# Altium schematic symbol library Sucaiku.SCHLIB: 81 symbols (part 1 of 2)
Pins are listed as number, name and electrical type; pins without a type are passive.

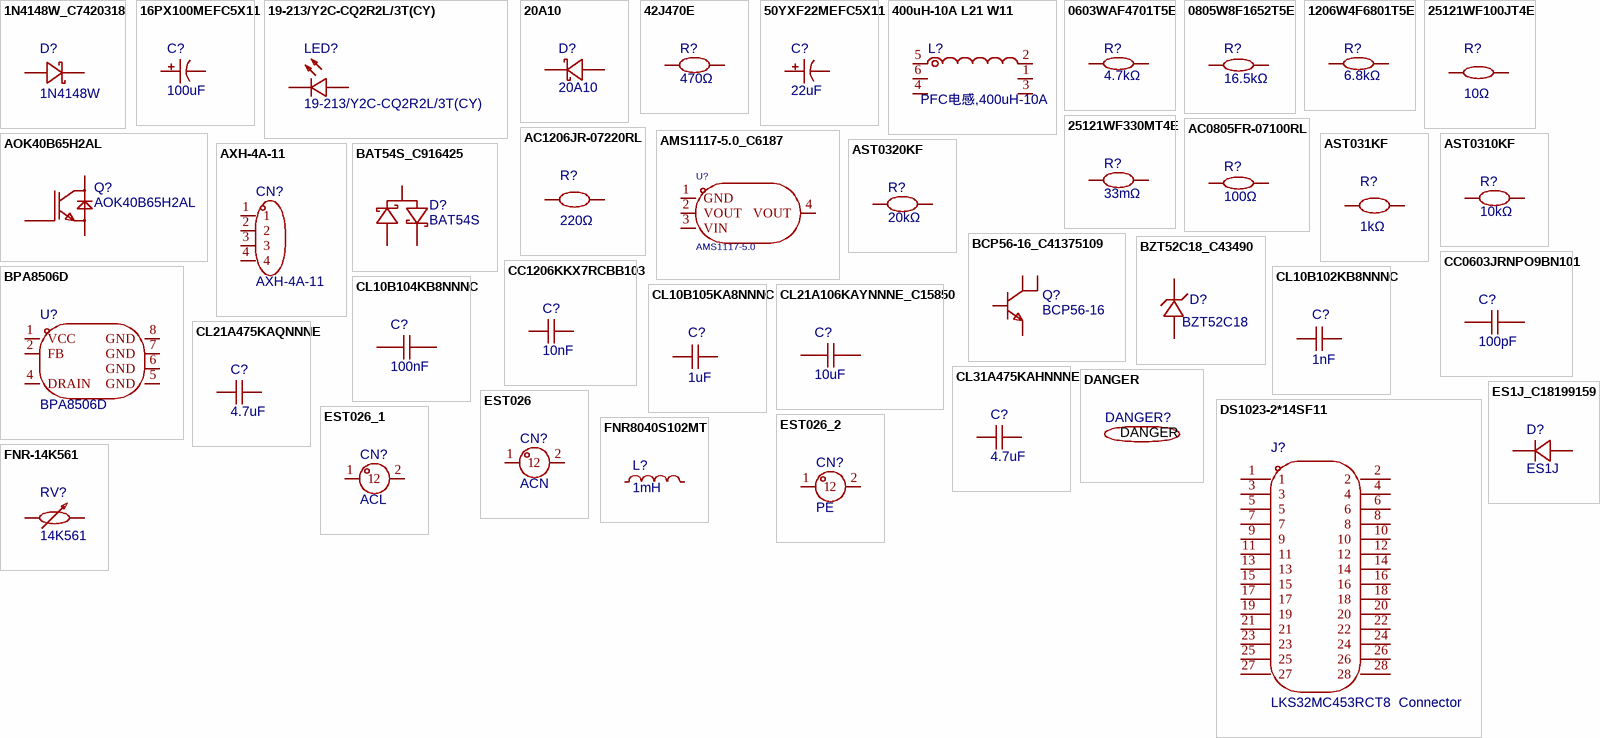
[diagram p0: symbols 1N4148W_C7420318 to FNR-14K561]

## 1N4148W_C7420318
designator D?, comment 1N4148W
二极管配置:独立式;整流电流:150mA;直流反向耐压(Vr):100V;正向压降(Vf):1.25V@150mA;反向恢复时间(Trr):4ns;; Manufacturer: R+O(宏嘉诚); Symbol: 1N4148W_C7420318; AddInBom: yes; ModelId: 5054d9b7be8b429dad093a54b517b4dd聨0819f05c4eef4c71ace90d822a990e87; ModelName: SOD-123_L2.7-W1.6-LS3.7-FD; ModelTransform: 145.669,61.024,0,0,0,0,0,0,0; Diode Configuration: 独立式; Pd - Power Dissipation: 400mW; Current - Rectified: 150mA; Voltage - DC Reverse(Vr): 100V; Non-Repetitive Peak Forward Surge Current: 2A; Reverse Leakage Current (Ir): 1uA@75V; Reverse Recovery Time (trr): 4ns; Operating Junction Temperature Range: -55℃~+150℃; Device: 1N4148W_C7420318; LCSC Part Name: 100V 150mA; SupplierPart: C7420318; ManufacturerPart: 1N4148W; Supplier Footprint: SOD-123; JLCPCB Part Class: Extended Part; Datasheet: https://item.szlcsc.com/datasheet/1N4148W/8397140.html; Supplier: LCSC; ConvertToPcb: yes; FootprintName: SOD-123_L2.7-W1.6-LS3.7-FD; Voltage - Forward(Vf@If): 1.25V@150mA
footprint SOD-123_L2.7-W1.6-LS3.7-FD
pins: 1 A, 2 K

## 16PX100MEFC5X11
designator C?, comment 100uF
容值:100uF;精度:±20%;额定电压:16V;纹波电流:130mA@120Hz;等效串联电阻:-;; Manufacturer: rubycon(红宝石); Symbol: 16PX100MEFC5X11; AddInBom: yes; ModelId: edeeed87cbc746108d01291548c38636聨0819f05c4eef4c71ace90d822a990e87; ModelName: CAP-TH_D5.0×H7.0×P2.0; ModelTransform: 197.091,196.7911,0,0,0,0,0,0,-137.795; Tolerance: ±20%; Rated Voltage: 16V; φD: 5mm; L: 11mm; Lifetime @ Temp: 1000hrs@105℃; Device: 16PX100MEFC5X11; LCSC Part Name: 100uF ±20% 16V; SupplierPart: C88753; ManufacturerPart: 16PX100MEFC5X11; Supplier Footprint: 插件,D5xL11mm; JLCPCB Part Class: Extended Part; Datasheet: https://atta.szlcsc.com/upload/public/pdf/source/20171026/C136025_15089841766351059112.pdf; Supplier: LCSC; ConvertToPcb: yes; FootprintName: CAP-TH_BD5.0-P2.00-D0.8-FD; Value: 100uF; Ripple Current: 130mA@120Hz; Equivalent Series Resistance(ESR): -; Lead Spacing: 2mm; Operating Temperature: -25℃~+105℃
footprint CAP-TH_BD5.0-P2.00-D0.8-FD
pins: 1, 2

## 19-213/Y2C-CQ2R2L/3T(CY)
designator LED?
灯头类型:-;发光颜色:黄色;正向压降(Vf):1.7V~2.3V;功率:60mW;正向电流:20mA;波长:585.5nm~591.5nm;二极管配置:-;透镜颜色:无色透明透镜;色温:-;发光强度:90mcd~180mcd;发光角度:120°;载带方式:-;工作温度:-40℃~+85℃;; Manufacturer: EVERLIGHT(亿光); AddInBom: yes; ModelId: a8fc7d5425514cf49dd600af0a7bb223聨0819f05c4eef4c71ace90d822a990e87; ModelName: LED0603-RD-YELLOW; ModelTransform: 63.7794,32.283,0,0,0,0,-1.969,0,0; Illumination Color: 黄色; Power(Watts): 60mW; Forward Current: 20mA; Peak Wavelength: 591nm; Lens Color: 无色透明透镜; Viewing Angle: 120°; Symbol: 19-213/Y2C-CQ2R2L/3T(CY); Device: 19-213/Y2C-CQ2R2L/3T(CY); LCSC Part Name: 黄灯; SupplierPart: C72038; ManufacturerPart: 19-213/Y2C-CQ2R2L/3T(CY); Supplier Footprint: 0603; JLCPCB Part Class: Extended Part; Supplier: LCSC; ConvertToPcb: yes; FootprintName: LED0603-RD-YELLOW; Lamp Holder Type: -; Voltage - Forward(Vf): 1.7V~2.3V; Wavelength - Dominant: 585.5nm~591.5nm; Diode Configuration: -; Color Temperature: -; Luminous Intensity: 90mcd~180mcd; Mounting Style: -; Operating Temperature: -40℃~+85℃
footprint LED0603-RD-YELLOW
pins: 1 C, 2 A

## 20A10
designator D?
二极管配置:1个独立式;正向压降(Vf):1.1V;直流反向耐压(Vr):1kV;整流电流:20A;; Manufacturer: XCH(旭昌辉); AddInBom: yes; ModelId: 44ca3a3bb809421495e4ca0e88ba9e22聨0819f05c4eef4c71ace90d822a990e87; ModelName: R-6_BD8.9-L8.9-P12.90-D1.3-FD; ModelTransform: 559.054,348.4245,0,0,0,0,0,0,-196.85; Diode Configuration: 1个独立式; Voltage - Forward(Vf@If): 1.1V; Voltage - DC Reverse(Vr): 1kV; Current - Rectified: 20A; Reverse Leakage Current (Ir): 5uA; Non-Repetitive Peak Forward Surge Current: 500A; Operating Junction Temperature Range: -55℃~+150℃; Symbol: 20A10; Device: 20A10; LCSC Part Name: 1kV 20A; SupplierPart: C5280530; ManufacturerPart: 20A10; Supplier Footprint: R-6; JLCPCB Part Class: Extended Part; Datasheet: https://item.szlcsc.com/datasheet/20A10/6016569.html; Supplier: LCSC; ConvertToPcb: yes; FootprintName: R-6_BD8.9-L8.9-P12.90-D1.3-FD
footprint R-6_BD8.9-L8.9-P12.90-D1.3-FD
pins: 1 A, 2 K

## 42J470E
designator R?, comment 470Ω
电阻类型:绕线电阻;阻值:470Ω;精度:±5%;功率:2W;温度系数:±20ppm/℃;; Manufacturer: Ohmite; Symbol: 42J470E; AddInBom: yes; ModelId: 4747cf4e98b642d29179640c6a2117b8聨0819f05c4eef4c71ace90d822a990e87; ModelName: RES-TH_BD5.6-L10.3-P14.30-D1.0; ModelTransform: 602.361,220.472,0,0,0,0,0,0,-196.85; Tolerance: ±5%; Power(Watts): 2W; Device: 42J470E; LCSC Part Name: 绕线电阻 470Ω ±5% 2W; SupplierPart: C2647050; ManufacturerPart: 42J470E; Supplier Footprint: 插件,D5.6xL10.3mm; JLCPCB Part Class: Extended Part; Datasheet: https://atta.szlcsc.com/upload/public/pdf/source/20210415/FD57F7914712F3BEBDE1F10436F3A07C.pdf; Supplier: LCSC; ConvertToPcb: yes; FootprintName: RES-TH_BD5.6-L10.3-P14.30-D1.0; Type: 绕线电阻; Value: 470Ω; Temperature Coefficient: ±20ppm/℃; Operating Temperature Range: -
footprint RES-TH_BD5.6-L10.3-P14.30-D1.0
pins: 1, 2

## 50YXF22MEFC5X11
designator C?, comment 22uF
容值:22uF;精度:±20%;额定电压:50V;; Manufacturer: Rubycon(红宝石); Symbol: 50YXF22MEFC5X11; AddInBom: yes; ModelId: edeeed87cbc746108d01291548c38636聨0819f05c4eef4c71ace90d822a990e87; ModelName: CAP-TH_D5.0×H7.0×P2.0; ModelTransform: 197.091,196.7911,0,0,0,0,0,0,-137.795; Tolerance: ±20%; Voltage Rating: 50V; Pin Spacing: 2mm; Lifetime: 5000hrs@105℃; Device: 50YXF22MEFC5X11; LCSC Part Name: 22uF ±20% 50V; SupplierPart: C88755; ManufacturerPart: 50YXF22MEFC5X11; Supplier Footprint: 插件,D5xL11mm; JLCPCB Part Class: Extended Part; Datasheet: https://item.szlcsc.com/datasheet/50YXF22MEFC5X11/89935.html; Supplier: LCSC; ConvertToPcb: yes; FootprintName: CAP-TH_BD5.0-P2.00-D0.8-FD; Value: 22uF; Diameter: 5mm; Height - Seated (Max): 11mm; Operating Temperature: -40℃~+105℃
footprint CAP-TH_BD5.0-P2.00-D0.8-FD
pins: 1, 2

## 400uH-10A L21 W11
designator L?, comment PFC电感,400uH-10A
Symbol: 400uH-10A L21 W11; AddInBom: yes; OriginFootprint: L/50*36-V-21*11(7.5); Device: 400uH-10A L21 W11; FootprintName: L/50*36-V-21*11(7.5); ConvertToPcb: yes
footprint L/50*36-V-21*11(7.5)
pins: 1 6, 2, 3, 4, 5, 6 1

## 0603WAF4701T5E
designator R?, comment 4.7kΩ
电阻类型:厚膜电阻;阻值:4.7kΩ;精度:±1%;功率:100mW;工作电压:75V;温度系数:±100ppm/℃;; Manufacturer: UNI-ROYAL(厚声); Symbol: 0603WAF4701T5E; AddInBom: yes; ModelId: fc143cca1e79419f9cd78b61e9279f08聨0819f05c4eef4c71ace90d822a990e87; ModelName: R0603; ModelTransform: 31.8897,63.7794,0,90,0,0,0,0,0; Tolerance: ±1%; Power(Watts): 100mW; Voltage-Supply(Max): 75V; Device: 0603WAF4701T5E; LCSC Part Name: 4.7kΩ ±1% 100mW 厚膜电阻; SupplierPart: C23162; ManufacturerPart: 0603WAF4701T5E; Supplier Footprint: 0603; JLCPCB Part Class: Basic Part; Datasheet: https://item.szlcsc.com/datasheet/0603WAF4701T5E/23889.html; Supplier: LCSC; ConvertToPcb: yes; FootprintName: R0603; Type: 厚膜电阻; Value: 4.7kΩ; Temperature Coefficient: ±100ppm/℃; Operating Temperature: -55℃~+155℃
footprint R0603
pins: 1, 2

## 0805W8F1652T5E
designator R?, comment 16.5kΩ
电阻类型:厚膜电阻;阻值:16.5kΩ;精度:±1%;功率:125mW;工作电压:150V;温度系数:±100ppm/℃;; Manufacturer: UNI-ROYAL(厚声); Symbol: 0805W8F1652T5E; AddInBom: yes; ModelId: 37a81e68749a4138bd2dfa6897b24b85聨0819f05c4eef4c71ace90d822a990e87; ModelName: R0805_L2.0-W1.3-H0.6; ModelTransform: 78.74,51.181,0,0,0,0,0,-0.0005,0; Tolerance: ±1%; Power(Watts): 125mW; Voltage-Supply(Max): 150V; Device: 0805W8F1652T5E; LCSC Part Name: 16.5kΩ ±1% 125mW 厚膜电阻; SupplierPart: C35929; ManufacturerPart: 0805W8F1652T5E; Supplier Footprint: 0805; JLCPCB Part Class: Extended Part; Datasheet: https://item.szlcsc.com/datasheet/0805W8F1652T5E/36906.html; Supplier: LCSC; ConvertToPcb: yes; FootprintName: R0805; Type: 厚膜电阻; Value: 16.5kΩ; Temperature Coefficient: ±100ppm/℃; Operating Temperature: -55℃~+155℃
footprint R0805
pins: 1, 2

## 1206W4F6801T5E
designator R?, comment 6.8kΩ
电阻类型:厚膜电阻;阻值:6.8kΩ;精度:±1%;功率:250mW;工作电压:200V;温度系数:±100ppm/℃;; Manufacturer: UNI-ROYAL(厚声); Symbol: 1206W4F6801T5E; AddInBom: yes; ModelId: 89a1f13db2384da588040e0b3c55bf66聨0819f05c4eef4c71ace90d822a990e87; ModelName: R1206_L3.2-W1.6-H0.6; ModelTransform: 125.984,62.992,0,0,0,0,0,0,0; Tolerance: ±1%; Power(Watts): 250mW; Voltage-Supply(Max): 200V; Device: 1206W4F6801T5E; LCSC Part Name: 6.8kΩ ±1% 250mW 厚膜电阻; SupplierPart: C26034; ManufacturerPart: 1206W4F6801T5E; Supplier Footprint: 1206; JLCPCB Part Class: Extended Part; Datasheet: https://item.szlcsc.com/datasheet/1206W4F6801T5E/26777.html; Supplier: LCSC; ConvertToPcb: yes; FootprintName: R1206; Type: 厚膜电阻; Value: 6.8kΩ; Temperature Coefficient: ±100ppm/℃; Operating Temperature: -55℃~+155℃
footprint R1206
pins: 1, 2

## 25121WF100JT4E
designator R?, comment 10Ω
电阻类型:厚膜电阻;阻值:10Ω;精度:±1%;功率:1W;工作电压:200V;温度系数:±400ppm/℃;; Manufacturer: UNI-ROYAL(厚声); Symbol: 25121WF100JT4E; AddInBom: yes; ModelId: 954b67263d9e4f3582d8de3f8c846421聨0819f05c4eef4c71ace90d822a990e87; ModelName: R2512_L6.3-W3.2-H0.6; ModelTransform: 248.031,125.984,0,0,0,0,-0.0005,0,0; Tolerance: ±1%; Power(Watts): 1W; Voltage-Supply(Max): 200V; Device: 25121WF100JT4E; LCSC Part Name: 10Ω ±1% 1W 厚膜电阻; SupplierPart: C47019; ManufacturerPart: 25121WF100JT4E; Supplier Footprint: 2512; JLCPCB Part Class: Extended Part; Datasheet: https://item.szlcsc.com/datasheet/25121WF100JT4E/48024.html; Supplier: LCSC; ConvertToPcb: yes; FootprintName: R2512; Type: 厚膜电阻; Value: 10Ω; Temperature Coefficient: ±400ppm/℃; Operating Temperature: -55℃~+155℃
footprint R2512
pins: 1, 2

## 25121WF330MT4E
designator R?, comment 33mΩ
电阻类型:厚膜电阻;阻值:33mΩ;精度:±1%;功率:1W;工作电压:200V;温度系数:±800ppm/℃;; Manufacturer: UNI-ROYAL(厚声); Symbol: 25121WF330MT4E; AddInBom: yes; ModelId: 954b67263d9e4f3582d8de3f8c846421聨0819f05c4eef4c71ace90d822a990e87; ModelName: R2512_L6.3-W3.2-H0.6; ModelTransform: 248.031,125.984,0,0,0,0,-0.0005,0,0; Tolerance: ±1%; Power(Watts): 1W; Voltage-Supply(Max): 200V; Device: 25121WF330MT4E; LCSC Part Name: 33mΩ ±1% 1W 厚膜电阻; SupplierPart: C620828; ManufacturerPart: 25121WF330MT4E; Supplier Footprint: 2512; JLCPCB Part Class: Extended Part; Datasheet: https://item.szlcsc.com/datasheet/25121WF330MT4E/650699.html; Supplier: LCSC; ConvertToPcb: yes; FootprintName: R2512; Type: 厚膜电阻; Value: 33mΩ; Temperature Coefficient: ±800ppm/℃; Operating Temperature: -55℃~+155℃
footprint R2512
pins: 1, 2

## AC0805FR-07100RL
designator R?, comment 100Ω
电阻类型:厚膜电阻;阻值:100Ω;精度:±1%;功率:125mW;工作电压:150V;温度系数:±100ppm/℃;; Manufacturer: YAGEO(国巨); Symbol: AC0805FR-07100RL; AddInBom: yes; ModelId: 37a81e68749a4138bd2dfa6897b24b85聨0819f05c4eef4c71ace90d822a990e87; ModelName: R0805_L2.0-W1.3-H0.6; ModelTransform: 78.74,51.181,0,0,0,0,0,-0.0005,0; Tolerance: ±1%; Power(Watts): 125mW; Voltage-Supply(Max): 150V; Device: AC0805FR-07100RL; LCSC Part Name: 厚膜电阻 100Ω ±1% 125mW; SupplierPart: C138274; ManufacturerPart: AC0805FR-07100RL; Supplier Footprint: 0805; JLCPCB Part Class: Extended Part; Datasheet: https://item.szlcsc.com/datasheet/AC0805FR-07100RL/149590.html; Supplier: LCSC; ConvertToPcb: yes; FootprintName: R0805; Type: 厚膜电阻; Value: 100Ω; Temperature Coefficient: ±100ppm/℃; Operating Temperature: -55℃~+155℃
footprint R0805
pins: 1, 2

## AC1206JR-07220RL
designator R?, comment 220Ω
电阻类型:厚膜电阻;阻值:220Ω;精度:±5%;功率:250mW;工作电压:200V;温度系数:±100ppm/℃;; Manufacturer: YAGEO(国巨); Symbol: AC1206JR-07220RL; AddInBom: yes; ModelId: 89a1f13db2384da588040e0b3c55bf66聨0819f05c4eef4c71ace90d822a990e87; ModelName: R1206_L3.2-W1.6-H0.6; ModelTransform: 125.984,62.992,0,0,0,0,0,0,0; Tolerance: ±5%; Power(Watts): 250mW; Voltage-Supply(Max): 200V; Device: AC1206JR-07220RL; LCSC Part Name: 厚膜电阻 220Ω ±5% 250mW; SupplierPart: C229909; ManufacturerPart: AC1206JR-07220RL; Supplier Footprint: 1206; JLCPCB Part Class: Extended Part; Datasheet: https://item.szlcsc.com/datasheet/AC1206JR-07220RL/229889.html; Supplier: LCSC; ConvertToPcb: yes; FootprintName: R1206; Type: 厚膜电阻; Value: 220Ω; Temperature Coefficient: ±100ppm/℃; Operating Temperature: -55℃~+155℃
footprint R1206
pins: 1, 2

## AMS1117-5.0_C6187
designator U?, comment AMS1117-5.0
输出极性:正极;工作电压:15V;输出电压:5V;输出电流:1A;电源纹波抑制比(PSRR):60dB;输出类型:固定;; Manufacturer: Advanced Monolithic Systems; Device: AMS1117-5.0_C6187; AddInBom: yes; ModelId: 925194bf9823436183a3e0b978a8d076聨0819f05c4eef4c71ace90d822a990e87; ModelName: SOT-223-4P_L6.5-W3.5-H1.6-LS7.0-P2.30; ModelTransform: 279.89794,255.905,0,180,0,0,0.0005,0.0005,0; Output Configuration: 正极; Voltage - Supply: 15V; Output Voltage: 5V; Output Current: 1A; Power Supply Rejection Ratio (PSRR): 60dB; Voltage Dropout: 1.3V; standby current: 5mA; Noise: 0.003%Vout; Output Type: 固定; Number of Outputs: 1; Symbol: AMS1117-5.0; LCSC Part Name: 5V 1A 15V; SupplierPart: C6187; ManufacturerPart: AMS1117-5.0; Supplier Footprint: SOT-223; JLCPCB Part Class: Basic Part; Datasheet: https://item.szlcsc.com/datasheet/AMS1117-5.0/6653.html; Supplier: LCSC; ConvertToPcb: yes; FootprintName: SOT-223_L6.5-W3.5-P2.30-LS7.0-BR; Features: 短路保护；热关断; Operating Temperature: -40℃~+125℃
footprint SOT-223_L6.5-W3.5-P2.30-LS7.0-BR
pins: 1 GND, 2 VOUT, 3 VIN, 4 VOUT

## AOK40B65H2AL
designator Q?
IGBT类型:-;集射极击穿电压(Vces):650V;集电极电流(Ic):80A;耗散功率(Pd):-;; Manufacturer: AOS; AddInBom: yes; ModelId: 2dc33f6e48bd44aa838c2b9e2b85eb16聨0819f05c4eef4c71ace90d822a990e87; ModelName: TO-247-3_L15.8-W5.0-P5.44-L; ModelTransform: 622.04631,185.078,0,0,0,0,-0.003,13.778,-196.85; Collector-Emitter Breakdown Voltage (Vces): 650V; Current - Collector(Ic): 80A; Voltage - Forward(Vf): 2.12V@20A; Vce Saturation(VCE(sat)): 2.6V@40A,15V; Gate-Emitter Threshold Voltage (Vge(th)@Ic): 4.7V@1mA; Gate Charge(Qg): 61nC; Input Capacitance(Cies): 1.23nF@25V; Td(on): 30ns; Td(off): 117ns; Turn-On Energy (Eon): 1.17mJ; Switching Energy(Eoff): 540uJ; Reverse Recovery Time(trr): 315ns; Symbol: AOK40B65H2AL; Device: AOK40B65H2AL; LCSC Part Name: AOK40B65H2AL; SupplierPart: C17588896; ManufacturerPart: AOK40B65H2AL; Supplier Footprint: TO-247; JLCPCB Part Class: Extended Part; Datasheet: https://item.szlcsc.com/datasheet/AOK40B65H2AL/18718129.html; Supplier: LCSC; ConvertToPcb: yes; FootprintName: TO-247-3_L15.8-W5.0-P5.44-L; IGBT Type: -; Pd - Power Dissipation: -; Operating Temperature: -
footprint TO-247-3_L15.8-W5.0-P5.44-L
pins: 1 G, 2 C, 3 E

## AST031KF
designator R?, comment 1kΩ
阻值:1kΩ;精度:±1%;功率:100mW;工作电压:75V;温度系数:±100ppm/℃;; Manufacturer: HKR(香港电阻); Symbol: AST031KF; AddInBom: yes; ModelId: fc143cca1e79419f9cd78b61e9279f08聨0819f05c4eef4c71ace90d822a990e87; ModelName: R0603; ModelTransform: 31.8897,63.7794,0,90,0,0,0,0,0; Tolerance: ±1%; Power(Watts): 100mW; Voltage-Supply(Max): 75V; Device: AST031KF; LCSC Part Name: 1K ±1%; SupplierPart: C49330120; ManufacturerPart: AST031KF; Supplier Footprint: 0603; JLCPCB Part Class: Extended Part; Datasheet: https://item.szlcsc.com/datasheet/AST031KF/51811762.html; Supplier: LCSC; ConvertToPcb: yes; FootprintName: R0603; Value: 1kΩ; Temperature Coefficient: ±100ppm/℃; Operating Temperature: -55℃~+155℃
footprint R0603
pins: 1, 2

## AST0310KF
designator R?, comment 10kΩ
阻值:10kΩ;精度:±1%;功率:100mW;工作电压:75V;温度系数:±100ppm/℃;; Manufacturer: HKR(香港电阻); Symbol: AST0310KF; 3D Model: fc143cca1e79419f9cd78b61e9279f08聨0819f05c4eef4c71ace90d822a990e87; 3D Model Transform: 31.8897,63.7794,0,90,0,0,0,0,0; Tolerance: ±1%; Power(Watts): 100mW; Voltage-Supply(Max): 75V; AddInBom: yes; ModelName: R0603; Device: AST0310KF; LCSC Part Name: 10K ±1%; Supplier Part: C49330116; Manufacturer Part: AST0310KF; Supplier Footprint: 0603; JLCPCB Part Class: Extended Part; Datasheet: https://item.szlcsc.com/datasheet/AST0310KF/51811758.html; Supplier: LCSC; Value: 10kΩ; Temperature Coefficient: ±100ppm/℃; Operating Temperature: -55℃~+155℃; ConvertToPcb: yes; FootprintName: R0603
footprint R0603
3D model R0603
pins: 1, 2

## AST0320KF
designator R?, comment 20kΩ
阻值:20kΩ;精度:±1%;功率:100mW;工作电压:75V;温度系数:±100ppm/℃;; Manufacturer: HKR(香港电阻); Symbol: AST0320KF; AddInBom: yes; ModelId: fc143cca1e79419f9cd78b61e9279f08聨0819f05c4eef4c71ace90d822a990e87; ModelName: R0603; ModelTransform: 31.8897,63.7794,0,90,0,0,0,0,0; Tolerance: ±1%; Power(Watts): 100mW; Voltage-Supply(Max): 75V; Device: AST0320KF; LCSC Part Name: 20K ±1%; SupplierPart: C49330123; ManufacturerPart: AST0320KF; Supplier Footprint: 0603; JLCPCB Part Class: Extended Part; Datasheet: https://item.szlcsc.com/datasheet/AST0320KF/51811765.html; Supplier: LCSC; ConvertToPcb: yes; FootprintName: R0603; Value: 20kΩ; Temperature Coefficient: ±100ppm/℃; Operating Temperature: -55℃~+155℃
footprint R0603
pins: 1, 2

## AXH-4A-11
designator CN?
插针结构:1x4P;间距:2.5mm;安装方式:直插;参考系列:XH;总PIN数:4P;排数:1;每排PIN数:4;行距:2.5mm;额定电流:2A;触头材质:黄铜;触头镀层:锡;工作温度:-25℃~+85℃;; Manufacturer: JXTCONN(聚兴泰); AddInBom: yes; ModelId: 9492b9b5a702460f82b1decd06d0892a聨0819f05c4eef4c71ace90d822a990e87; ModelName: CONN-TH_KH-XH-4A-Z; ModelTransform: 492.125,232.283,0,0,0,0,0,21.654,-137.795; Pins Structure: 1x4P; Pitch: 2.5mm; Reference Series: XH; Number of PINs Per Row: 4; Current Rating: 2A; Voltage Rating: 250V; Plastic Material: PA66; Flame Retardant Rating: UL94V-0; Z-Height of the Board: 7mm; X-Length of Bottom Edge on Board (Spacing Line): 12.5mm; Y-Width of Bottom Edge on Board: 5.9mm; Symbol: AXH-4A-11; Device: AXH-4A-11; LCSC Part Name: 1x4P 间距:2.5mm 直插 系列:XH; SupplierPart: C42422439; ManufacturerPart: AXH-4A-11; Supplier Footprint: 插件,P=2.54mm; JLCPCB Part Class: Extended Part; Datasheet: https://item.szlcsc.com/datasheet/AXH-4A-11/44442050.html; Supplier: LCSC; ConvertToPcb: yes; FootprintName: CONN-TH_KH-XH-4A-Z; Mounting Type: 直插; Number of Pins: 4P; Number of Rows: 1; Row Spacing: 2.5mm; Contact Material: 黄铜; Contact Plating: 锡; Operating Temperature: -25℃~+85℃; Supplementary Features: -; Color: 白色
footprint CONN-TH_KH-XH-4A-Z
pins: 1, 2, 3, 4

## BAT54S_C916425
designator D?, comment BAT54S
二极管配置:1对串联式;正向压降(Vf):800mV@100mA;直流反向耐压(Vr):30V;整流电流:200mA;; Manufacturer: JSMSEMI(杰盛微); Symbol: BAT54S_C916425; AddInBom: yes; ModelId: c62791f0466c4ae2a892c056b845b0ca聨0819f05c4eef4c71ace90d822a990e87; ModelName: SOT-23-3P_L2.9-W1.3-H1.0-LS2.4-P0.95; ModelTransform: 98.425,114.173,0,180,0,0,0.0005,-0.0005,0; Diode Configuration: 1对串联式; Voltage - DC Reverse(Vr): 30V; Current - Rectified: 200mA; Reverse Leakage Current (Ir): 2uA@25V; Non-Repetitive Peak Forward Surge Current: 600mA; Device: BAT54S_C916425; LCSC Part Name: 电压:30V 电流:200mA; SupplierPart: C916425; ManufacturerPart: BAT54S; Supplier Footprint: SOT-23; JLCPCB Part Class: Extended Part; Datasheet: https://item.szlcsc.com/datasheet/BAT54S/990921.html; Supplier: LCSC; ConvertToPcb: yes; FootprintName: SOT-23-3_L2.9-W1.3-P1.90-LS2.4-BR; Voltage - Forward(Vf@If): 800mV@100mA
footprint SOT-23-3_L2.9-W1.3-P1.90-LS2.4-BR
pins: 1 A, 2 K, 3

## BCP56-16_C41375109
designator Q?, comment BCP56-16
晶体管类型:NPN;集电极电流(Ic):1A;集射极击穿电压(Vceo):80V;耗散功率(Pd):1.33W;直流电流增益(hFE):25@5mA,2V;; Manufacturer: R+O(宏嘉诚); Symbol: BCP56-16_C41375109; AddInBom: yes; ModelId: 925194bf9823436183a3e0b978a8d076聨0819f05c4eef4c71ace90d822a990e87; ModelName: SOT-223-4P_L6.5-W3.5-H1.6-LS7.0-P2.30; ModelTransform: 279.89794,255.905,0,180,0,0,-0.0005,-0.0005,0; type: NPN; Current - Collector(Ic): 1A; Collector - Emitter Voltage VCEO: 80V; Pd - Power Dissipation: 1.33W; Transition frequency(fT): 130MHz; Current - Collector Cutoff: 100nA; Vce Saturation(VCE(sat)): 500mV@500mA,50mA; Emitter-Base Voltage(Vebo): 5V; Device: BCP56-16_C41375109; LCSC Part Name: NPN 电流:1A 电压:80V; SupplierPart: C41375109; ManufacturerPart: BCP56-16; Supplier Footprint: SOT-223; JLCPCB Part Class: Extended Part; Datasheet: https://item.szlcsc.com/datasheet/BCP56-16/43142109.html; Supplier: LCSC; ConvertToPcb: yes; FootprintName: SOT-223-4_L6.5-W3.5-P2.30-LS7.0-BR; DC Current Gain: 25@5mA,2V; Operating Temperature: -
footprint SOT-223-4_L6.5-W3.5-P2.30-LS7.0-BR
pins: 1 B, 2 C, 3 E, 4 C

## BPA8506D
designator U?
电压:连续可调/400mA 工业级辅助电源芯片; Manufacturer: BPS(上海晶丰明源); AddInBom: yes; ModelId: 4c4ce7185fd740e384edc3256ac39212聨0819f05c4eef4c71ace90d822a990e87; ModelName: SOP-7_L4.9-W3.9-P1.27-LS6.0-BR; ModelTransform: 236.22,192.913,0,0,0,0,0,0,0; Output Isolation: 非隔离; Topology: 降压式; Symbol: BPA8506D; Device: BPA8506D; LCSC Part Name: AC-DC电源芯片; SupplierPart: C5119885; ManufacturerPart: BPA8506D; Supplier Footprint: SOP-7; JLCPCB Part Class: Extended Part; Datasheet: https://atta.szlcsc.com/upload/public/pdf/source/20220808/6F529D685BCC89C565740F166C056501.pdf; Supplier: LCSC; ConvertToPcb: yes; FootprintName: SOP-7_L4.9-W3.9-P1.27-LS6.0-BR
footprint SOP-7_L4.9-W3.9-P1.27-LS6.0-BR
pins: 1 VCC, 2 FB, 4 DRAIN, 5 GND, 6 GND, 7 GND, 8 GND

## BZT52C18_C43490
designator D?, comment BZT52C18
二极管配置:1个独立式;稳压值(标称值):18V;稳压值(范围):16.8V~19.1V;耗散功率(Pd):500mW;; Manufacturer: CJ(江苏长电/长晶); Device: BZT52C18_C43490; AddInBom: yes; ModelId: 7884390a25fb4c08947731ebfba7e3f8聨0819f05c4eef4c71ace90d822a990e87; ModelName: SOD-123_L2.8-W1.8-LS3.7-RD; ModelTransform: 144.8816,62.992,0,0,0,0,0,0,0; Diode Configuration: 1个独立式; Zener Voltage(Nom): 18V; Reverse Leakage Current (Ir): 100nA@12.6V; Pd - Power Dissipation: 500mW; Impedance(Zzt): 45Ω; Impedance(Zzk): 225Ω; Operating Junction Temperature Range: -55℃~+150℃; Symbol: BZT52C18; LCSC Part Name: 独立式 耐压:18V 电流:0.1uA@12.6V; SupplierPart: C43490; ManufacturerPart: BZT52C18; Supplier Footprint: SOD-123; JLCPCB Part Class: Extended Part; Datasheet: https://item.szlcsc.com/datasheet/BZT52C18/44481.html; Supplier: LCSC; ConvertToPcb: yes; FootprintName: SOD-123_L2.8-W1.8-LS3.7-RD; Zener Voltage(Range): 16.8V~19.1V; Tolerance: -
footprint SOD-123_L2.8-W1.8-LS3.7-RD
pins: 1 C, 2 A

## CC0603JRNPO9BN101
designator C?, comment 100pF
容值:100pF;精度:±5%;额定电压:50V;温度系数:NP0;; Manufacturer: YAGEO(国巨); Symbol: CC0603JRNPO9BN101; AddInBom: yes; ModelId: ac125912035d415993ca9572d50418b1聨0819f05c4eef4c71ace90d822a990e87; ModelName: C0603_L1.6-W0.8-H0.8; ModelTransform: 62.992,31.496,0,0,0,0,0,0,0; Tolerance: ±5%; Voltage Rating: 50V; Temperature Coefficient: NP0; Device: CC0603JRNPO9BN101; LCSC Part Name: 100pF ±5% 50V; SupplierPart: C14665; ManufacturerPart: CC0603JRNPO9BN101; Supplier Footprint: 0603; JLCPCB Part Class: Extended Part; Datasheet: https://item.szlcsc.com/datasheet/CC0603JRNPO9BN101/15333.html; Supplier: LCSC; ConvertToPcb: yes; FootprintName: C0603; Value: 100pF
footprint C0603
pins: 1, 2

## CC1206KKX7RCBB103
designator C?, comment 10nF
容值:10nF;精度:±10%;额定电压:1kV;材质(温度系数):X7R;; Manufacturer: YAGEO(国巨); Symbol: CC1206KKX7RCBB103; AddInBom: yes; ModelId: e4be705b945545a48e666415e3682bd8聨0819f05c4eef4c71ace90d822a990e87; ModelName: C1206_L3.2-W1.6-H1.3; ModelTransform: 125.984,62.992,0,0,0,0,0,0,0; Tolerance: ±10%; Voltage Rated: 1kV; Temperature Coefficient: X7R; Device: CC1206KKX7RCBB103; LCSC Part Name: 10nF ±10% 1kV; SupplierPart: C107192; ManufacturerPart: CC1206KKX7RCBB103; Supplier Footprint: 1206; JLCPCB Part Class: Extended Part; Datasheet: https://atta.szlcsc.com/upload/public/pdf/source/20180910/C282080_BCE296114B59C3710FB69343383A5C6E.pdf; Supplier: LCSC; ConvertToPcb: yes; FootprintName: C1206; Value: 10nF
footprint C1206
pins: 1, 2

## CL10B102KB8NNNC
designator C?, comment 1nF
容值:1nF;精度:±10%;额定电压:50V;温度系数:X7R;; Manufacturer: SAMSUNG(三星); Symbol: CL10B102KB8NNNC; AddInBom: yes; ModelId: ac125912035d415993ca9572d50418b1聨0819f05c4eef4c71ace90d822a990e87; ModelName: C0603_L1.6-W0.8-H0.8; ModelTransform: 62.992,31.496,0,0,0,0,0,0,0; Tolerance: ±10%; Voltage Rating: 50V; Temperature Coefficient: X7R; Device: CL10B102KB8NNNC; LCSC Part Name: 1nF ±10% 50V; SupplierPart: C1588; ManufacturerPart: CL10B102KB8NNNC; Supplier Footprint: 0603; JLCPCB Part Class: Basic Part; Datasheet: https://item.szlcsc.com/datasheet/CL10B102KB8NNNC/1940.html; Supplier: LCSC; ConvertToPcb: yes; FootprintName: C0603; Value: 1nF
footprint C0603
pins: 1, 2

## CL10B104KB8NNNC
designator C?, comment 100nF
容值:100nF;精度:±10%;额定电压:50V;温度系数:X7R;; Manufacturer: SAMSUNG(三星); Symbol: CL10B104KB8NNNC; AddInBom: yes; ModelId: ac125912035d415993ca9572d50418b1聨0819f05c4eef4c71ace90d822a990e87; ModelName: C0603_L1.6-W0.8-H0.8; ModelTransform: 62.992,31.496,0,0,0,0,0,0,0; Tolerance: ±10%; Voltage Rating: 50V; Temperature Coefficient: X7R; Device: CL10B104KB8NNNC; LCSC Part Name: 100nF ±10% 50V; SupplierPart: C1591; ManufacturerPart: CL10B104KB8NNNC; Supplier Footprint: 0603; JLCPCB Part Class: Extended Part; Datasheet: https://item.szlcsc.com/datasheet/CL10B104KB8NNNC/1943.html; Supplier: LCSC; ConvertToPcb: yes; FootprintName: C0603; Value: 100nF
footprint C0603
pins: 1, 2

## CL10B105KA8NNNC
designator C?, comment 1uF
容值:1uF;精度:±10%;额定电压:25V;温度系数:X7R;; Manufacturer: SAMSUNG(三星); Symbol: CL10B105KA8NNNC; AddInBom: yes; ModelId: ac125912035d415993ca9572d50418b1聨0819f05c4eef4c71ace90d822a990e87; ModelName: C0603_L1.6-W0.8-H0.8; ModelTransform: 62.992,31.496,0,0,0,0,0,0,0; Tolerance: ±10%; Voltage Rating: 25V; Temperature Coefficient: X7R; Device: CL10B105KA8NNNC; LCSC Part Name: 1uF ±10% 25V; SupplierPart: C29936; ManufacturerPart: CL10B105KA8NNNC; Supplier Footprint: 0603; JLCPCB Part Class: Extended Part; Datasheet: https://item.szlcsc.com/datasheet/CL10B105KA8NNNC/30690.html; Supplier: LCSC; ConvertToPcb: yes; FootprintName: C0603; Value: 1uF
footprint C0603
pins: 1, 2

## CL21A106KAYNNNE_C15850
designator C?, comment 10uF
容值:10uF;精度:±10%;额定电压:25V;温度系数:X5R;; Manufacturer: SAMSUNG(三星); Symbol: CL21A106KAYNNNE; Device: CL21A106KAYNNNE_C15850; AddInBom: yes; ModelId: 1ba041120af144c991958decab20d241聨0819f05c4eef4c71ace90d822a990e87; ModelName: C0805_L2.0-W1.3-H1.3; ModelTransform: 78.74,51.181,0,0,0,0,0,0.0005,0; Tolerance: ±10%; Voltage Rating: 25V; Temperature Coefficient: X5R; LCSC Part Name: 10uF ±10% 25V; SupplierPart: C15850; ManufacturerPart: CL21A106KAYNNNE; Supplier Footprint: 0805; JLCPCB Part Class: Basic Part; Datasheet: https://item.szlcsc.com/datasheet/CL21A106KAYNNNE/16532.html; Supplier: LCSC; ConvertToPcb: yes; FootprintName: C0805; Value: 10uF
footprint C0805
pins: 1, 2

## CL21A475KAQNNNE
designator C?, comment 4.7uF
容值:4.7uF;精度:±10%;额定电压:25V;温度系数:X5R;; Manufacturer: SAMSUNG(三星); Symbol: CL21A475KAQNNNE; AddInBom: yes; ModelId: 1ba041120af144c991958decab20d241聨0819f05c4eef4c71ace90d822a990e87; ModelName: C0805_L2.0-W1.3-H1.3; ModelTransform: 78.74,51.181,0,0,0,0,0,0.0005,0; Tolerance: ±10%; Voltage Rating: 25V; Temperature Coefficient: X5R; Device: CL21A475KAQNNNE; LCSC Part Name: 4.7uF ±10% 25V; SupplierPart: C1779; ManufacturerPart: CL21A475KAQNNNE; Supplier Footprint: 0805; JLCPCB Part Class: Basic Part; Datasheet: https://item.szlcsc.com/datasheet/CL21A475KAQNNNE/2131.html; Supplier: LCSC; ConvertToPcb: yes; FootprintName: C0805; Value: 4.7uF
footprint C0805
pins: 1, 2

## CL31A475KAHNNNE
designator C?, comment 4.7uF
容值:4.7uF;精度:±10%;额定电压:25V;温度系数:X5R;; Manufacturer: SAMSUNG(三星); Symbol: CL31A475KAHNNNE; AddInBom: yes; ModelId: e4be705b945545a48e666415e3682bd8聨0819f05c4eef4c71ace90d822a990e87; ModelName: C1206_L3.2-W1.6-H1.3; ModelTransform: 125.984,62.992,0,0,0,0,0,0,0; Tolerance: ±10%; Voltage Rating: 25V; Temperature Coefficient: X5R; Device: CL31A475KAHNNNE; LCSC Part Name: 4.7uF ±10% 25V; SupplierPart: C11044; ManufacturerPart: CL31A475KAHNNNE; Supplier Footprint: 1206; JLCPCB Part Class: Extended Part; Datasheet: https://item.szlcsc.com/datasheet/CL31A475KAHNNNE/11591.html; Supplier: LCSC; ConvertToPcb: yes; FootprintName: C1206; Value: 4.7uF
footprint C1206
pins: 1, 2

## DANGER
designator DANGER?
Symbol: DANGER; AddInBom: yes; Device: DANGER; FootprintName: DANGER CAUTION_1; ConvertToPcb: yes
footprint DANGER CAUTION_1

## DS1023-2*14SF11
designator J?, comment LKS32MC453RCT8  Connector
插孔结构:2x14P;间距:2.54mm;行距:2.54mm;安装方式:直插;排数:双排;总孔位数:28P;额定电流:3A;额定电压:600V;插孔方向:顶部;塑高:8.5mm;触头材质:-;触头镀层:金;工作温度:-40℃~+105℃;; Manufacturer: CONNFLY; Symbol: DS1023-2*14SF11; AddInBom: yes; ModelId: 7a003188d48b46d1b4dfaea3b006a9b7聨0819f05c4eef4c71ace90d822a990e87; ModelName: HDR-TH_28P-P2.54-F-LI-2X14P; ModelTransform: 1419.682,196.85,0,0,0,0,0,0,-118.11; Holes Structure: 2x14P; Pitch: 2.54mm; Number of Positions: 28P; Current Rating: 3A; Voltage Rating (Max): 600V; Holes Direction: 顶部; Device: DS1023-2*14SF11; Manufacturer Part: LKS32MC453RCT8  Connector; LCSC Part Name: 2x14P 间距:2.54mm 直插; SupplierPart: C132128; Supplier Footprint: 插件,P=2.54mm; JLCPCB Part Class: Extended Part; Datasheet: https://item.szlcsc.com/datasheet/DS1023-2*14SF11/143427.html; Supplier: LCSC; ConvertToPcb: yes; FootprintName: HDR-TH_28P-P2.54-V-F-R2-C14-S2.54-1; Row Spacing: 2.54mm; Mounting Type: 直插; Number of Rows: 双排; Insulation Height: 8.5mm; Contact Material: -; Contact Plating: 金; Operating Temperature: -40℃~+105℃
footprint HDR-TH_28P-P2.54-V-F-R2-C14-S2.54-1
pins: 1, 2, 3, 4, 5, 6, 7, 8, 9, 10, 11, 12, 13, 14, 15, 16, 17, 18, 19, 20, 21, 22, 23, 24, 25, 26, 27, 28

## ES1J_C18199159
designator D?, comment ES1J
二极管配置:1个独立式;正向压降(Vf):1.7V@1A;直流反向耐压(Vr):600V;整流电流:1A;反向恢复时间(Trr):35ns;; Manufacturer: R+O(宏嘉诚); Device: ES1J_C18199159; AddInBom: yes; ModelId: 8d2dd2e50a3a4b27821fa63d469a8f11聨0819f05c4eef4c71ace90d822a990e87; ModelName: SMA_L4.3-W2.6-LS5.0-RD; ModelTransform: 196.85,102.362,0,0,0,0,0,0,0; Diode Configuration: 1个独立式; Voltage - DC Reverse(Vr): 600V; Current - Rectified: 1A; Reverse Leakage Current (Ir): 2uA@600V; Reverse Recovery Time (trr): 35ns; Operating Junction Temperature Range: -55℃~+150℃; Non-Repetitive Peak Forward Surge Current: 30A; Symbol: ES1J; LCSC Part Name: 耐压:600V 电流:1A 反向恢复时间：35ns; SupplierPart: C18199159; ManufacturerPart: ES1J; Supplier Footprint: SMA(DO-214AC); JLCPCB Part Class: Extended Part; Datasheet: https://item.szlcsc.com/datasheet/ES1J/19354391.html; Supplier: LCSC; ConvertToPcb: yes; FootprintName: SMA_L4.3-W2.6-LS5.0-RD; Voltage - Forward(Vf@If): 1.7V@1A; Pd - Power Dissipation: -
footprint SMA_L4.3-W2.6-LS5.0-RD
pins: 1 K, 2 A

## EST026
designator CN?, comment ACN
环保; Manufacturer: xcfuse(旭程); Symbol: EST026; AddInBom: yes; ModelId: caeb915258b34f389ee2048176497ca2聨0819f05c4eef4c71ace90d822a990e87; ModelName: CONN-TH_L6.3-W0.8-EST026; ModelTransform: 328.7395,78.74,0,0,0,0,0,0,-137.795; Device: EST026; Manufacturer Part: ACN; LCSC Part Name: EST026; SupplierPart: C52878; Supplier Footprint: 插件; Datasheet: https://item.szlcsc.com/datasheet/EST026/53893.html; Supplier: LCSC; ConvertToPcb: yes; FootprintName: CONN-TH_L6.3-W0.8-EST026
footprint CONN-TH_L6.3-W0.8-EST026
pins: 1, 2

## EST026_1
designator CN?, comment ACL
环保; Manufacturer: xcfuse(旭程); Symbol: EST026; AddInBom: yes; ModelId: caeb915258b34f389ee2048176497ca2聨0819f05c4eef4c71ace90d822a990e87; ModelName: CONN-TH_L6.3-W0.8-EST026; ModelTransform: 328.7395,78.74,0,0,0,0,0,0,-137.795; Device: EST026; Manufacturer Part: ACL; LCSC Part Name: EST026; SupplierPart: C52878; Supplier Footprint: 插件; Datasheet: https://item.szlcsc.com/datasheet/EST026/53893.html; Supplier: LCSC; ConvertToPcb: yes; FootprintName: CONN-TH_L6.3-W0.8-EST026
footprint CONN-TH_L6.3-W0.8-EST026
pins: 1, 2

## EST026_2
designator CN?, comment PE
环保; Manufacturer: xcfuse(旭程); Symbol: EST026; AddInBom: yes; ModelId: caeb915258b34f389ee2048176497ca2聨0819f05c4eef4c71ace90d822a990e87; ModelName: CONN-TH_L6.3-W0.8-EST026; ModelTransform: 328.7395,78.74,0,0,0,0,0,0,-137.795; Device: EST026; Manufacturer Part: PE; LCSC Part Name: EST026; SupplierPart: C52878; Supplier Footprint: 插件; Datasheet: https://item.szlcsc.com/datasheet/EST026/53893.html; Supplier: LCSC; ConvertToPcb: yes; FootprintName: CONN-TH_L6.3-W0.8-EST026
footprint CONN-TH_L6.3-W0.8-EST026
pins: 1, 2

## FNR8040S102MT
designator L?, comment 1mH
电感值:1mH;精度:±20%;额定电流:400mA;饱和电流(Isat):500mA;类型:磁胶屏蔽绕线合金电感;; Manufacturer: cjiang(长江微电); Symbol: FNR8040S102MT; AddInBom: yes; ModelId: d5ac0014766247b8a9453b0228ebb8be聨0819f05c4eef4c71ace90d822a990e87; ModelName: IND-SMD_L8.0-W8.0-H6.5_FNR80XXS; ModelTransform: 314.96,314.96,0,270,0,0,0,0,0; Tolerance: ±20%; Current Rating: 400mA; Current - Saturation(Isat): 500mA; DC Resistance(DCR): 3.64Ω; Device: FNR8040S102MT; LCSC Part Name: 1mH ±20% 500mA; SupplierPart: C168152; ManufacturerPart: FNR8040S102MT; Supplier Footprint: SMD,8x8mm; JLCPCB Part Class: Extended Part; Datasheet: https://atta.szlcsc.com/upload/public/pdf/source/20190327/C167925_9EFF0AABC4CA629C2CC95961DBF7D39D.pdf; Supplier: LCSC; ConvertToPcb: yes; FootprintName: IND-SMD_L8.0-W8.0_FNR80XXS; Value: 1mH; Type: 磁胶屏蔽绕线合金电感
footprint IND-SMD_L8.0-W8.0_FNR80XXS
pins: 1, 2

## FNR-14K561
designator RV?, comment 14K561
压敏电压:504V~616V;钳位电压:925V;工作电压:455V;工作电压(AC):350V;; Manufacturer: FH(风华); Symbol: FNR-14K561; AddInBom: yes; ModelId: 1d82582c2e294565bb4a21e6e6d2374a聨0819f05c4eef4c71ace90d822a990e87; ModelName: RES-TH_L17.5-W6.4-H21.0-P7.50-D0.8-S6.40; ModelTransform: 688.96579,283.464,0,0,0,0,0,0,-157.48; Clamping Voltage: 925V; Maximum DC Volts: 455V; Maximum AC Volts: 350V; Peak Current: 4.5kA; Energy: 104J; Device: FNR-14K561; Value: 14K561; LCSC Part Name: 钳位电压925V 104焦耳 插件压敏电阻; ManufacturerPart: FNR-14K561; Supplier Footprint: 插件; JLCPCB Part Class: Extended Part; Datasheet: https://atta.szlcsc.com/upload/public/pdf/source/20190509/C390700_613469742418004B73D7E01107A1F380.pdf; Supplier: LCSC; ConvertToPcb: yes; FootprintName: RES-TH_L16.5-W6.4-P7.50-D0.9-S6.40; Varistor Voltage: 504V~616V
footprint RES-TH_L16.5-W6.4-P7.50-D0.9-S6.40
pins: 1, 2

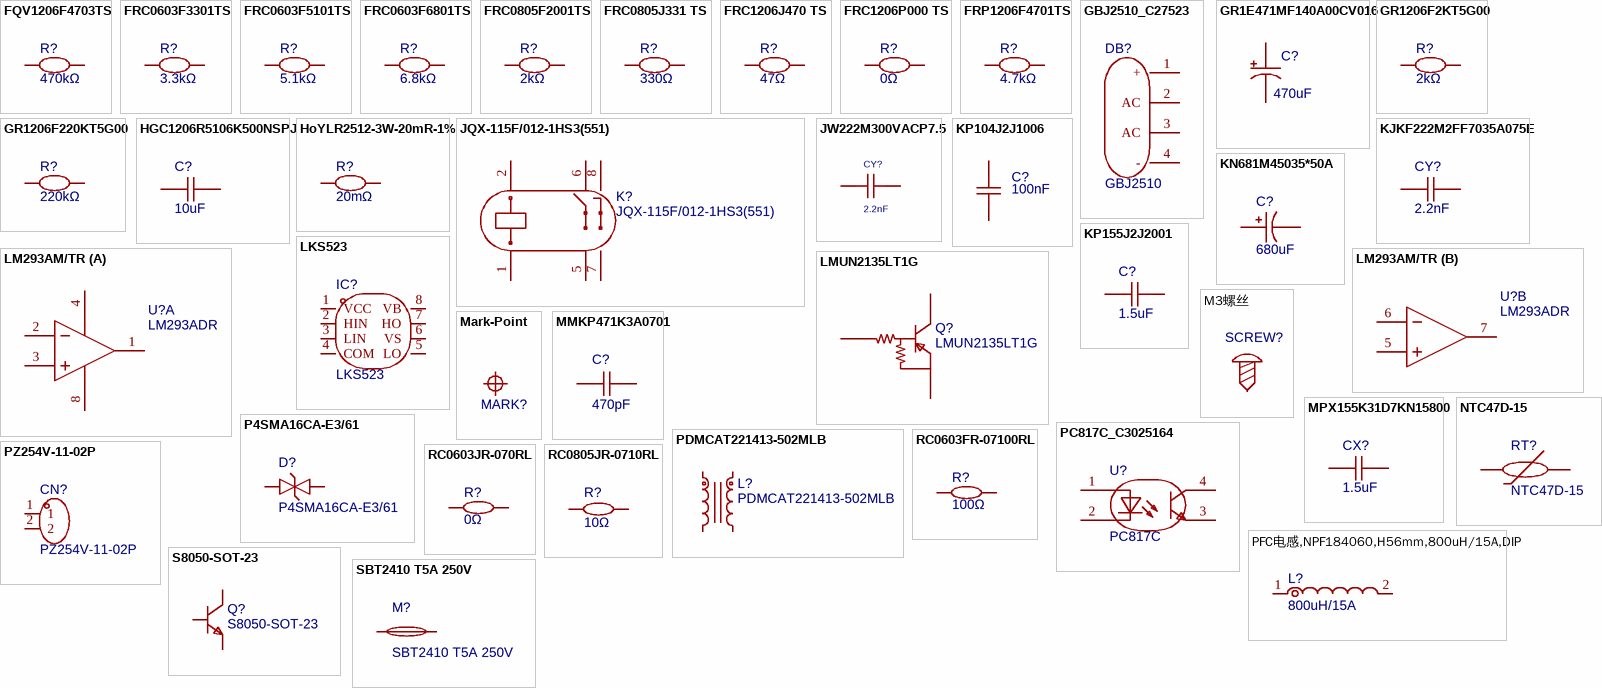
[diagram p1: symbols FQV1206F4703TS to SBT2410 T5A 250V]

## FQV1206F4703TS
designator R?, comment 470kΩ
电阻类型:厚膜电阻;阻值:470kΩ;精度:±1%;功率:250mW;工作电压:500V;温度系数:±200ppm/℃;; Manufacturer: FOJAN(富捷); Symbol: FQV1206F4703TS; AddInBom: yes; ModelId: 89a1f13db2384da588040e0b3c55bf66聨0819f05c4eef4c71ace90d822a990e87; ModelName: R1206_L3.2-W1.6-H0.6; ModelTransform: 125.984,62.992,0,0,0,0,0,0,0; Tolerance: ±1%; Power(Watts): 250mW; Voltage-Supply(Max): 500V; Device: FQV1206F4703TS; LCSC Part Name: 厚膜电阻 470KΩ ±1% 250mW; SupplierPart: C53064385; ManufacturerPart: FQV1206F4703TS; Supplier Footprint: 1206; JLCPCB Part Class: Extended Part; Datasheet: https://item.szlcsc.com/datasheet/FQV1206F4703TS/56018987.html; Supplier: LCSC; ConvertToPcb: yes; FootprintName: R1206; Type: 厚膜电阻; Value: 470kΩ; Temperature Coefficient: ±200ppm/℃; Operating Temperature: -55℃~+155℃
footprint R1206
pins: 1, 2

## FRC0603F3301TS
designator R?, comment 3.3kΩ
电阻类型:厚膜电阻;阻值:3.3kΩ;精度:±1%;功率:100mW;工作电压:75V;温度系数:±100ppm/℃;; Manufacturer: FOJAN(富捷); Symbol: FRC0603F3301TS; AddInBom: yes; ModelId: fc143cca1e79419f9cd78b61e9279f08聨0819f05c4eef4c71ace90d822a990e87; ModelName: R0603; ModelTransform: 31.8897,63.7794,0,90,0,0,0,0,0; Tolerance: ±1%; Power(Watts): 100mW; Voltage-Supply(Max): 75V; Device: FRC0603F3301TS; LCSC Part Name: 3.3kΩ ±1% 100mW 厚膜电阻; SupplierPart: C2907023; ManufacturerPart: FRC0603F3301TS; Supplier Footprint: 0603; JLCPCB Part Class: Extended Part; Datasheet: https://item.szlcsc.com/datasheet/FRC0603F3301TS/3180536.html; Supplier: LCSC; ConvertToPcb: yes; FootprintName: R0603; Type: 厚膜电阻; Value: 3.3kΩ; Temperature Coefficient: ±100ppm/℃; Operating Temperature: -55℃~+155℃
footprint R0603
pins: 1, 2

## FRC0603F5101TS
designator R?, comment 5.1kΩ
电阻类型:厚膜电阻;阻值:5.1kΩ;精度:±1%;功率:100mW;工作电压:75V;温度系数:±100ppm/℃;; Manufacturer: FOJAN(富捷); Symbol: FRC0603F5101TS; AddInBom: yes; ModelId: fc143cca1e79419f9cd78b61e9279f08聨0819f05c4eef4c71ace90d822a990e87; ModelName: R0603; ModelTransform: 31.8897,63.7794,0,90,0,0,0,0,0; Tolerance: ±1%; Power(Watts): 100mW; Voltage-Supply(Max): 75V; Device: FRC0603F5101TS; LCSC Part Name: 5.1kΩ ±1% 100mW 厚膜电阻; SupplierPart: C2907044; ManufacturerPart: FRC0603F5101TS; Supplier Footprint: 0603; JLCPCB Part Class: Extended Part; Supplier: LCSC; ConvertToPcb: yes; FootprintName: R0603; Type: 厚膜电阻; Value: 5.1kΩ; Temperature Coefficient: ±100ppm/℃; Operating Temperature: -55℃~+155℃
footprint R0603
pins: 1, 2

## FRC0603F6801TS
designator R?, comment 6.8kΩ
电阻类型:厚膜电阻;阻值:6.8kΩ;精度:±1%;功率:100mW;工作电压:75V;温度系数:±100ppm/℃;; Manufacturer: FOJAN(富捷); Symbol: FRC0603F6801TS; AddInBom: yes; ModelId: fc143cca1e79419f9cd78b61e9279f08聨0819f05c4eef4c71ace90d822a990e87; ModelName: R0603; ModelTransform: 31.8897,63.7794,0,90,0,0,0,0,0; Tolerance: ±1%; Power(Watts): 100mW; Voltage-Supply(Max): 75V; Device: FRC0603F6801TS; LCSC Part Name: 6.8kΩ ±1% 100mW 厚膜电阻; SupplierPart: C2907055; ManufacturerPart: FRC0603F6801TS; Supplier Footprint: 0603; JLCPCB Part Class: Extended Part; Supplier: LCSC; ConvertToPcb: yes; FootprintName: R0603; Type: 厚膜电阻; Value: 6.8kΩ; Temperature Coefficient: ±100ppm/℃; Operating Temperature: -55℃~+155℃
footprint R0603
pins: 1, 2

## FRC0805F2001TS
designator R?, comment 2kΩ
电阻类型:厚膜电阻;阻值:2kΩ;精度:±1%;功率:125mW;工作电压:150V;温度系数:±100ppm/℃;; Manufacturer: FOJAN(富捷); Symbol: FRC0805F2001TS; AddInBom: yes; ModelId: 37a81e68749a4138bd2dfa6897b24b85聨0819f05c4eef4c71ace90d822a990e87; ModelName: R0805_L2.0-W1.3-H0.6; ModelTransform: 78.74,51.181,0,0,0,0,0,-0.0005,0; Tolerance: ±1%; Power(Watts): 125mW; Voltage-Supply(Max): 150V; Device: FRC0805F2001TS; LCSC Part Name: 2kΩ ±1% 125mW 厚膜电阻; SupplierPart: C2907248; ManufacturerPart: FRC0805F2001TS; Supplier Footprint: 0805; JLCPCB Part Class: Extended Part; Supplier: LCSC; ConvertToPcb: yes; FootprintName: R0805; Type: 厚膜电阻; Value: 2kΩ; Temperature Coefficient: ±100ppm/℃; Operating Temperature: -55℃~+155℃
footprint R0805
pins: 1, 2

## FRC0805J331 TS
designator R?, comment 330Ω
电阻类型:厚膜电阻;阻值:330Ω;精度:±5%;功率:125mW;工作电压:150V;温度系数:±100ppm/℃;; Manufacturer: FOJAN(富捷); Symbol: FRC0805J331 TS; AddInBom: yes; ModelId: 37a81e68749a4138bd2dfa6897b24b85聨0819f05c4eef4c71ace90d822a990e87; ModelName: R0805_L2.0-W1.3-H0.6; ModelTransform: 78.74,51.181,0,0,0,0,0,-0.0005,0; Tolerance: ±5%; Power(Watts): 125mW; Voltage-Supply(Max): 150V; Device: FRC0805J331 TS; LCSC Part Name: 330Ω ±5% 125mW 厚膜电阻; SupplierPart: C2907321; ManufacturerPart: FRC0805J331 TS; Supplier Footprint: 0805; JLCPCB Part Class: Extended Part; Supplier: LCSC; ConvertToPcb: yes; FootprintName: R0805; Type: 厚膜电阻; Value: 330Ω; Temperature Coefficient: ±100ppm/℃; Operating Temperature: -55℃~+155℃
footprint R0805
pins: 1, 2

## FRC1206J470 TS
designator R?, comment 47Ω
电阻类型:厚膜电阻;阻值:47Ω;精度:±5%;功率:250mW;工作电压:200V;温度系数:±100ppm/℃;; Manufacturer: FOJAN(富捷); Symbol: FRC1206J470 TS; AddInBom: yes; ModelId: 89a1f13db2384da588040e0b3c55bf66聨0819f05c4eef4c71ace90d822a990e87; ModelName: R1206_L3.2-W1.6-H0.6; ModelTransform: 125.984,62.992,0,0,0,0,0,0,0; Tolerance: ±5%; Power(Watts): 250mW; Voltage-Supply(Max): 200V; Device: FRC1206J470 TS; LCSC Part Name: 47Ω ±5% 250mW 厚膜电阻; SupplierPart: C2907508; ManufacturerPart: FRC1206J470 TS; Supplier Footprint: 1206; JLCPCB Part Class: Extended Part; Supplier: LCSC; ConvertToPcb: yes; FootprintName: R1206; Type: 厚膜电阻; Value: 47Ω; Temperature Coefficient: ±100ppm/℃; Operating Temperature: -55℃~+155℃
footprint R1206
pins: 1, 2

## FRC1206P000 TS
designator R?, comment 0Ω
电阻类型:厚膜电阻;阻值:0Ω;精度:±5%;功率:250mW;工作电压:200V;; Manufacturer: FOJAN(富捷); Symbol: FRC1206P000 TS; AddInBom: yes; ModelId: 89a1f13db2384da588040e0b3c55bf66聨0819f05c4eef4c71ace90d822a990e87; ModelName: R1206_L3.2-W1.6-H0.6; ModelTransform: 125.984,62.992,0,0,0,0,0,0,0; Tolerance: ±5%; Power(Watts): 250mW; Voltage-Supply(Max): 200V; Device: FRC1206P000 TS; LCSC Part Name: 0Ω ±5% 250mW 厚膜电阻; SupplierPart: C2907406; ManufacturerPart: FRC1206P000 TS; Supplier Footprint: 1206; JLCPCB Part Class: Extended Part; Supplier: LCSC; ConvertToPcb: yes; FootprintName: R1206; Type: 厚膜电阻; Value: 0Ω; Operating Temperature: -55℃~+155℃
footprint R1206
pins: 1, 2

## FRP1206F4701TS
designator R?, comment 4.7kΩ
电阻类型:厚膜电阻;阻值:4.7kΩ;精度:±1%;功率:500mW;工作电压:200V;温度系数:±100ppm/℃;; Manufacturer: FOJAN(富捷); Symbol: FRP1206F4701TS; AddInBom: yes; ModelId: 89a1f13db2384da588040e0b3c55bf66聨0819f05c4eef4c71ace90d822a990e87; ModelName: R1206_L3.2-W1.6-H0.6; ModelTransform: 125.984,62.992,0,0,0,0,0,0,0; Tolerance: ±1%; Power(Watts): 500mW; Voltage-Supply(Max): 200V; Device: FRP1206F4701TS; LCSC Part Name: 厚膜电阻 1206 4.7KΩ ±1% 500mW; SupplierPart: C54102245; ManufacturerPart: FRP1206F4701TS; Supplier Footprint: 1206; JLCPCB Part Class: Extended Part; Datasheet: https://item.szlcsc.com/datasheet/FRP1206F4701TS/57319625.html; Supplier: LCSC; ConvertToPcb: yes; FootprintName: R1206; Type: 厚膜电阻; Value: 4.7kΩ; Temperature Coefficient: ±100ppm/℃; Operating Temperature: -55℃~+155℃
footprint R1206
pins: 1, 2

## GBJ2510_C27523
designator DB?, comment GBJ2510
正向压降(Vf):1V@12.5A;直流反向耐压 (Vr):1kV;整流电流:25A;非重复峰值浪涌电流 (Ifsm):350A;; Manufacturer: MDD(辰达半导体); Device: GBJ2510_C27523; AddInBom: yes; ModelId: 7b3dffbc1a98477fa7ce54e971affac0聨0819f05c4eef4c71ace90d822a990e87; ModelName: DIO-BG-TH_GBJ-L30.0-W4.6-H20.0; ModelTransform: 1181.1,181.102,0,0,0,0,0,23.622,-137.795; Voltage - DC Reverse(Vr): 1kV; Current - Rectified: 25A; Reverse Leakage Current (Ir): 10uA@1kV; Non-Repetitive Peak Forward Surge Current: 350A; Operating Junction Temperature Range: -55℃~+150℃@(Tj); Symbol: GBJ2510; LCSC Part Name: 耐压:1000V 电流:25A; SupplierPart: C27523; ManufacturerPart: GBJ2510; Supplier Footprint: GBJ6; JLCPCB Part Class: Extended Part; Datasheet: https://item.szlcsc.com/datasheet/GBJ2510/28272.html; Supplier: LCSC; ConvertToPcb: yes; FootprintName: DIO-BG-TH_PB; Voltage - Forward(Vf@If): 1V@12.5A; Type: 单相整流
footprint DIO-BG-TH_PB
pins: 1 +, 2 AC, 3 AC, 4 -

## GR1E471MF140A00CV016
designator C?, comment 470uF
容值:470uF;精度:±20%;额定电压:25V;; Manufacturer: HUAWEI(华威集团); Symbol: GR1E471MF140A00CV016; AddInBom: yes; ModelId: a2c936ec27754f809f3966430e36f767聨0819f05c4eef4c71ace90d822a990e87; ModelName: CAP-TH_D8.0-H8.0-P3.50; ModelTransform: 314.96,314.862,0,180,0,0,0,0,-137.795; Tolerance: ±20%; Voltage Rating: 25V; Pin Spacing: 3.5mm; Lifetime: 2000hrs@85℃; Device: GR1E471MF140A00CV016; LCSC Part Name: 470uF ±20% 25V; SupplierPart: C271374; ManufacturerPart: GR1E471MF140A00CV016; Supplier Footprint: 插件,D8xL14mm; JLCPCB Part Class: Extended Part; Datasheet: https://item.szlcsc.com/datasheet/GR1E471MF140A00CV016/260517.html; Supplier: LCSC; ConvertToPcb: yes; FootprintName: CAP-TH_BD8.0-P3.50-D0.6-FD; Value: 470uF; Diameter: 8mm; Height - Seated (Max): 14mm
footprint CAP-TH_BD8.0-P3.50-D0.6-FD
pins: 1, 2

## GR1206F2KT5G00
designator R?, comment 2kΩ
电阻类型:厚膜电阻;阻值:2kΩ;精度:±1%;功率:250mW;工作电压:200V;; Manufacturer: GiantOhm(鼎声微电); Symbol: GR1206F2KT5G00; AddInBom: yes; ModelId: 89a1f13db2384da588040e0b3c55bf66聨0819f05c4eef4c71ace90d822a990e87; ModelName: R1206_L3.2-W1.6-H0.6; ModelTransform: 125.984,62.992,0,0,0,0,0,0,0; Tolerance: ±1%; Power(Watts): 250mW; Voltage-Supply(Max): 200V; Device: GR1206F2KT5G00; LCSC Part Name: 2K ±1%; SupplierPart: C49656411; ManufacturerPart: GR1206F2KT5G00; Supplier Footprint: 1206; JLCPCB Part Class: Extended Part; Datasheet: https://item.szlcsc.com/datasheet/GR1206F2KT5G00/52214001.html; Supplier: LCSC; ConvertToPcb: yes; FootprintName: R1206; Type: 厚膜电阻; Value: 2kΩ; Operating Temperature: -55℃~+155℃
footprint R1206
pins: 1, 2

## GR1206F220KT5G00
designator R?, comment 220kΩ
电阻类型:厚膜电阻;阻值:220kΩ;精度:±1%;功率:250mW;工作电压:200V;; Manufacturer: GiantOhm(鼎声微电); Symbol: GR1206F220KT5G00; AddInBom: yes; ModelId: 89a1f13db2384da588040e0b3c55bf66聨0819f05c4eef4c71ace90d822a990e87; ModelName: R1206_L3.2-W1.6-H0.6; ModelTransform: 125.984,62.992,0,0,0,0,0,0,0; Tolerance: ±1%; Power(Watts): 250mW; Voltage-Supply(Max): 200V; Device: GR1206F220KT5G00; LCSC Part Name: 220K ±1%; SupplierPart: C49653412; ManufacturerPart: GR1206F220KT5G00; Supplier Footprint: 1206; JLCPCB Part Class: Extended Part; Datasheet: https://item.szlcsc.com/datasheet/GR1206F220KT5G00/52210998.html; Supplier: LCSC; ConvertToPcb: yes; FootprintName: R1206; Type: 厚膜电阻; Value: 220kΩ; Operating Temperature: -55℃~+155℃
footprint R1206
pins: 1, 2

## HGC1206R5106K500NSPJ
designator C?, comment 10uF
容值:10uF;精度:±10%;额定电压:50V;温度系数:X5R;; Manufacturer: Chinocera(华瓷); Symbol: HGC1206R5106K500NSPJ; AddInBom: yes; ModelId: e4be705b945545a48e666415e3682bd8聨0819f05c4eef4c71ace90d822a990e87; ModelName: C1206_L3.2-W1.6-H1.3; ModelTransform: 125.984,62.992,0,0,0,0,0,0,0; Tolerance: ±10%; Voltage Rating: 50V; Temperature Coefficient: X5R; Device: HGC1206R5106K500NSPJ; LCSC Part Name: 10uF ±10% 50V; SupplierPart: C7432781; ManufacturerPart: HGC1206R5106K500NSPJ; Supplier Footprint: 1206; JLCPCB Part Class: Extended Part; Datasheet: https://item.szlcsc.com/datasheet/HGC1206R5106K500NSPJ/8438263.html; Supplier: LCSC; ConvertToPcb: yes; FootprintName: C1206; Value: 10uF
footprint C1206
pins: 1, 2

## HoYLR2512-3W-20mR-1%
designator R?, comment 20mΩ
电阻类型:采样电阻;阻值:20mΩ;精度:±1%;功率:3W;安装方式:贴片;; Manufacturer: Milliohm(毫欧); Symbol: HOYLR2512-3W-20MR-1%; AddInBom: yes; ModelId: 6cf6cbf2d5784533885afd09834c70e8聨0819f05c4eef4c71ace90d822a990e87; ModelName: RES-SMD_L6.4-W3.2_LR2512D-3W-1MR; ModelTransform: 252.7554,126.7714,0,0,0,0,0,0,0; Tolerance: ±1%; Power(Watts): 3W; Mounting Sytle: 贴片; Device: HoYLR2512-3W-20mR-1%; LCSC Part Name: 20mΩ ±1% 3W; SupplierPart: C5375467; ManufacturerPart: HoYLR2512-3W-20mR-1%; Supplier Footprint: 2512; JLCPCB Part Class: Extended Part; Datasheet: https://atta.szlcsc.com/upload/public/pdf/source/20230410/281FB57F2A31C64FD07DBC5FCC932F0E.pdf; Supplier: LCSC; ConvertToPcb: yes; FootprintName: RES-SMD_L6.4-W3.2_LR2512D-3W-1MR; Type: 采样电阻; Value: 20mΩ
footprint RES-SMD_L6.4-W3.2_LR2512D-3W-1MR
pins: 1, 2

## JQX-115F/012-1HS3(551)
designator K?
线圈电压:12V;触点形式:一组常开:1A(单刀单掷-常开);触点容量(电阻负载):16A@250VAC;最大切换电压:440V@AC；125V@DC;最大切换电流:16A;; Manufacturer: HF(宏发); AddInBom: yes; ModelId: 97babde272554f80b5cf5d364714ca22聨0819f05c4eef4c71ace90d822a990e87; ModelName: RELAY-TH_JQX-115F-XXX-1H-X-3; ModelTransform: 499.999,1141.73,0,0,0,0,0,-3.937,-157.48; Coil Voltage: 12V; Coil Rated Power: 400mW; Switching Current(Max): 16A; Coil Type: 无极性-单线圈; Coil Resistance: 360Ω; Contact Resistance: 50mΩ; Operate Time: 15ms; Release Time: 8ms; Symbol: JQX-115F/012-1HS3(551); Device: JQX-115F/012-1HS3(551); LCSC Part Name: 12V继电器 单刀单掷-常开; SupplierPart: C2976884; ManufacturerPart: JQX-115F/012-1HS3(551); Supplier Footprint: DIP,29x12.7mm; JLCPCB Part Class: Extended Part; Datasheet: https://item.szlcsc.com/datasheet/JQX-115F%252F012-1HS3(551)/3385104.html; Supplier: LCSC; ConvertToPcb: yes; FootprintName: RELAY-TH_JQX-115F-XXX-1H-X-3; Contact Form: 一组常开:1A(单刀单掷-常开); Number of Pins: 6; Contact Rating: 16A@250VAC; Switching Voltage(Max): 440V@AC；125V@DC; Contact Material: AgCdO; Operating Temperature: -40℃~+85℃; Length: 29mm; Width: 12.7mm
footprint RELAY-TH_JQX-115F-XXX-1H-X-3
pins: 1, 2, 5, 6, 7, 8

## JW222M300VACP7.5
designator CY?, comment 2.2nF
容值:2.2nF;精度:±20%;工作电压(AC):300V;防护等级:Y2;; Manufacturer: JURCC(捷威电子); Symbol: JW222M300VACP7.5; AddInBom: yes; ModelId: 95618c792d4044faae105d193811dc66聨0819f05c4eef4c71ace90d822a990e87; ModelName: CAP-TH_L7.0-W3.5-P7.50-D0.6-S2.90; ModelTransform: 334.645,137.795,0,0,0,0,-0.002,0,-196.85; Tolerance: ±20%; Voltage(AC): 300V; Ratings: Y2; safety certification: UL；ENEC；VDE；CQC; Device: JW222M300VACP7.5; LCSC Part Name: 2.2nF ±20% 300V 等级:Y2; SupplierPart: C48997971; ManufacturerPart: JW222M300VACP7.5; Supplier Footprint: 插件,P=7.5mm; JLCPCB Part Class: Extended Part; Datasheet: https://item.szlcsc.com/datasheet/JW222M300VACP7.5/51342107.html; Supplier: LCSC; ConvertToPcb: yes; FootprintName: CAP-TH_L7.0-W3.5-P7.50-D0.6-S2.90; Value: 2.2nF; Operating Temperature: -25℃~+125℃
footprint CAP-TH_L7.0-W3.5-P7.50-D0.6-S2.90
pins: 1, 2

## KJKF222M2FF7035A075E
designator CY?, comment 2.2nF
容值:2.2nF;精度:±20%;工作电压(AC):300V;防护等级:Y2;; Manufacturer: KNSCHA(科尼盛); Symbol: KJKF222M2FF7035A075E; AddInBom: yes; ModelId: a1695fc487ef4c5abbd7ddf84a04b120聨0819f05c4eef4c71ace90d822a990e87; ModelName: CAP-TH_BD6.5-W3.5-P7.5; ModelTransform: 321.76377,145.669,0,0,0,0,-0.005,0,-137.795; Tolerance: ±20%; Voltage(AC): 300V; Ratings: Y2; safety certification: UL；ENEC；VDE；CQC; Device: KJKF222M2FF7035A075E; LCSC Part Name: 等级:Y2 2200pF ±20% 300V; SupplierPart: C2803195; ManufacturerPart: KJKF222M2FF7035A075E; Supplier Footprint: 插件,P=7.5mm; JLCPCB Part Class: Extended Part; Datasheet: https://item.szlcsc.com/datasheet/KJKF222M2FF7035A075E/2945566.html; Supplier: LCSC; ConvertToPcb: yes; FootprintName: CAP-TH_L6.5-W3.5-P7.50-D1.0; Value: 2.2nF
footprint CAP-TH_L6.5-W3.5-P7.50-D1.0
pins: 1, 2

## KN681M45035*50A
designator C?, comment 680uF
容值:680uF;精度:±20%;额定电压:450V;脚间距:10mm;等效串联电阻(ESR):-;纹波电流:2.85A@120Hz;; Manufacturer: KFSON(康富松); Symbol: KN681M45035*50A; AddInBom: yes; ModelId: 99655738f73e4d50bff5807320ca27b0聨0819f05c4eef4c71ace90d822a990e87; ModelName: CAP-TH_BD35.0-P10.00-D2.3-FD; ModelTransform: 1378.344,1377.53398,0,0,0,0,0,0,-157.48; Tolerance: ±20%; Voltage Rating: 450V; Pin Spacing: 10mm; Lifetime: 2000hrs@105℃; Device: KN681M45035*50A; LCSC Part Name: 680uF ±20% 450V; SupplierPart: C2684457; ManufacturerPart: KN681M45035*50A; Supplier Footprint: 插件,D35xL50mm; JLCPCB Part Class: Extended Part; Datasheet: https://item.szlcsc.com/datasheet/KN681M45035*50A/2782461.html; Supplier: LCSC; ConvertToPcb: yes; FootprintName: CAP-TH_BD35.0-P10.00-D2.3-FD; Value: 680uF; Equivalent Series Resistance(ESR): -; Ripple Current: 2.85A@120Hz; Diameter: 35mm; Height - Seated (Max): 50mm; Operating Temperature: -25℃~+105℃
footprint CAP-TH_BD35.0-P10.00-D2.3-FD
pins: 1, 2

## KP104J2J1006
designator C?, comment 100nF
容值:100nF;精度:±5%;额定电压:630V;工作温度:-40℃~+100℃;; Manufacturer: KYET(科雅); Symbol: KP104J2J1006; AddInBom: yes; ModelId: af4d87f22de946f3b87e9bc308909498聨0819f05c4eef4c71ace90d822a990e87; ModelName: CAP-TH_L12.0-W5.5-H10.0-P10.0; ModelTransform: 472.44,216.535,0,0,0,0,0,0,-137.795; Tolerance: ±5%; Voltage Rating: 630V; Device: KP104J2J1006; LCSC Part Name: 100nF ±5% 630V; SupplierPart: C390130; ManufacturerPart: KP104J2J1006; Supplier Footprint: 插件,P=10mm; JLCPCB Part Class: Extended Part; Datasheet: https://item.szlcsc.com/datasheet/KP104J2J1006/366163.html; Supplier: LCSC; ConvertToPcb: yes; FootprintName: CAP-TH_L12.0-W5.5-P10.00-D1.0; Value: 100nF; Operating Temperature: -40℃~+100℃
footprint CAP-TH_L12.0-W5.5-P10.00-D1.0
pins: 1, 2